# EAGLE library part 691410120010 (library WR-TBL Spring Clamp)
WR-TBL Series 4101 - Screwless Push In 3.5mm pitch - 45° cable entry - THT KIND PROPERTIES Pitch 3.5 mm MATERIAL PROPERTIES Insulator Material PA66 Insulator Flammability Rating UL94 V-0 Insulator Color Black Spring Material Stainless Steel Pin Material Brass Pin Plating Tin over Nickel GENERAL INFORMATION Operating Temperature -40 up to +110 °C ELECTRICAL PROPERTIES IR cULus 7 A IR VDE 13.5 A Working Voltage [cULus] 300 V Working Voltage [VDE] 160 V Withstanding Voltage [cULus] 1600 V (AC) Withstanding Voltage [VDE] 1400 V (AC) Contact Resistance [cULus] 20 mΩ Contact Resistance [VDE] 20 mΩ Mechanical Properties Wire Strip Length 8 up to 9 (mm) Wire Properties Solid Wire Section (AWG) 24 to 18 (AWG) Solid Wire Section (Metric) 0.2 to 1 (mm²) Stranded Wire Section (AWG) 22 to 16 (AWG) Stranded Wire Section (Metric) 0.2 to 1.5 (mm²) CERTIFICATION cULus Approval E315414 VDE Approval 40055316 Packaging Properties Packaging Box Details see: https://www.we-online.com/en/components/products/WR-TBL_SERIES_4101_SCREWLESS_PUSH_IN_3_5MM_PITCH_45___CABLE_ENTRY_THT Created by Ella Wu 2023-06-13 2023(C) Würth Elektronik
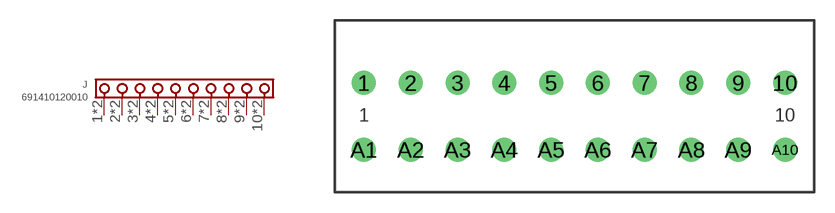
[diagram p150: symbol with the pads of 691410120010; footprint 691410120010]

Designator prefix J

## 691410120010 (APPLICATION: Screwless Push In; DATASHEET: https://www.we-online.com/redexpert/spec/691410120010?ae; IR-UL: 7A; MODULARITY: No; MOUNT: THT; PART-NUMBER: 691410120010; PINS: 10; PITCH: 3.5mm; TYPE: 45°; VALUE: 691410120010; WIRE: 22 to 16 (AWG) 0.2 to 1.5 (mm²); WORKING-VOLTAGE-UL: 300V)  [691410120010]
1  1  pas
2  2  pas
3  3  pas
4  4  pas
5  5  pas
6  6  pas
7  7  pas
8  8  pas
9  9  pas
10  10  pas
A1  1  pas
A2  2  pas
A3  3  pas
A4  4  pas
A5  5  pas
A6  6  pas
A7  7  pas
A8  8  pas
A9  9  pas
A10  10  pas

## Footprint 691410120010 (pad centres in mm)
WR-TBL Series 4101 - Screwless Push In 3.5mm pitch - 45° cable entry - THT Pitch 3.5mm, THT, 10pins
drill 1.2: 1 -15.75,2.5; 2 -12.25,2.5; 3 -8.75,2.5; 4 -5.25,2.5; 5 -1.75,2.5; 6 1.75,2.5; 7 5.25,2.5; 8 8.75,2.5; 9 12.25,2.5; 10 15.75,2.5; A1 -15.75,-2.5; A2 -12.25,-2.5; A3 -8.75,-2.5; A4 -5.25,-2.5; A5 -1.75,-2.5; A6 1.75,-2.5; A7 5.25,-2.5; A8 8.75,-2.5; A9 12.25,-2.5; A10 15.75,-2.5